# Altium integrated library Linear Technology Operational Amplifiers (LT2000-LT6000).IntLib: 1710 symbols (part 41 of 75)
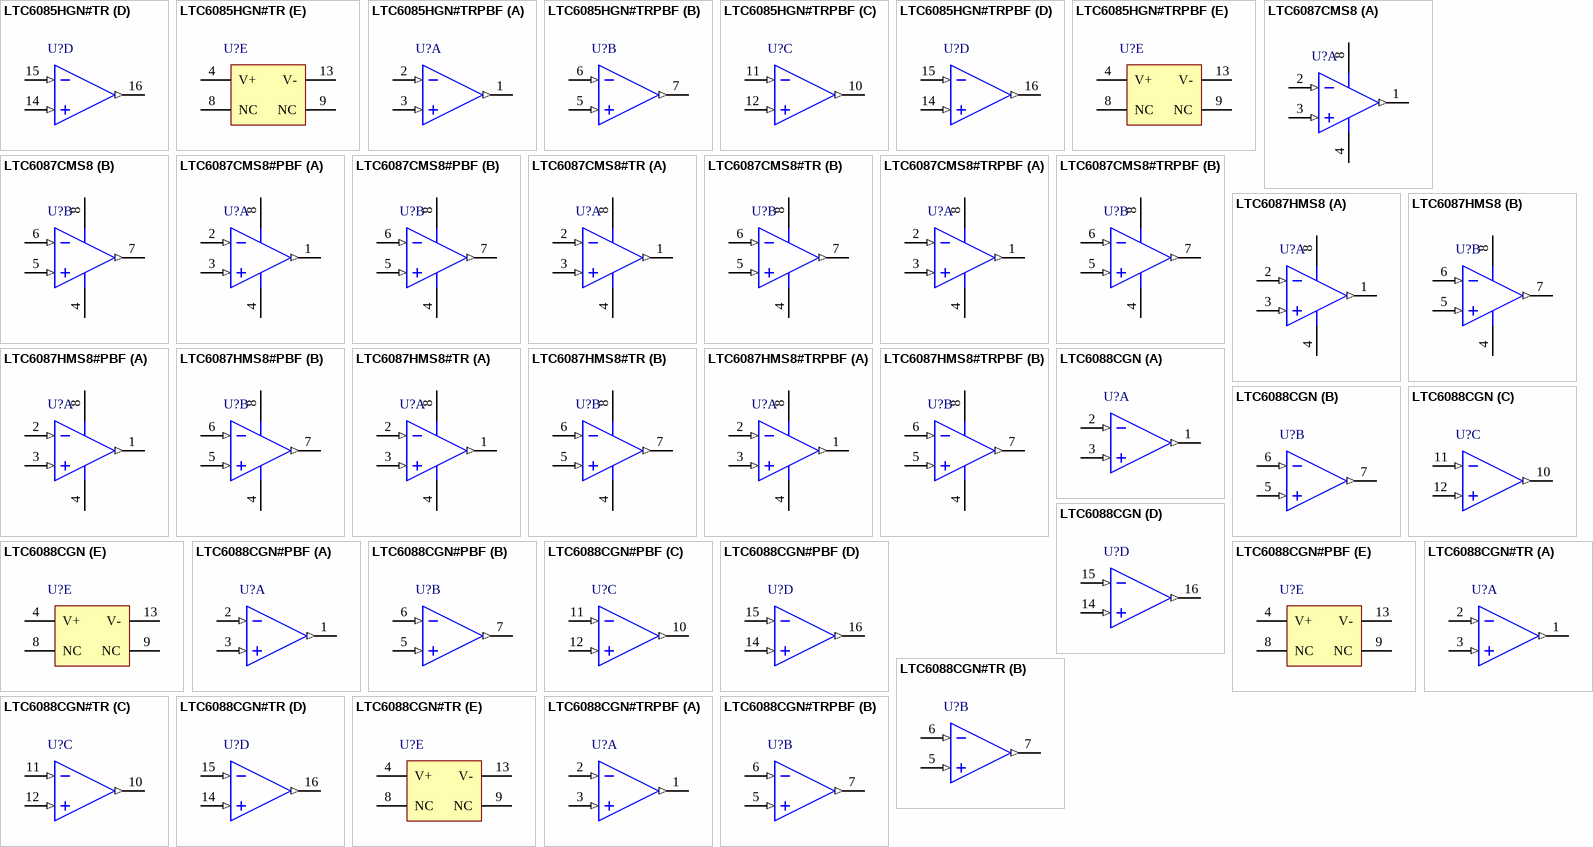
[diagram p120: symbols LTC6085HGN#TR to LTC6088CGN#TRPBF]

## LTC6085HGN#TR
designator U?
Quad Channel, Rail-to-Rail, CMOS Operational Amplifier, 1.5 MHz Typical GBW, 0.5 V/us Typical SR, 2.5 to 5.5 V, 16-Pin SOP (GN-16), High Temperature / Automotive, Reel; Linear Technology Part Number: LTC6085; Manufacturer: Linear Technology; PartNumber: LTC6085HGN#TR; Channels (#): 4; GBW (MHz) Typical: 1.5; Is (mA) Typical: 0.11; SR (V/us) Typical: 0.5; Vos (mV) Typical: 0.3; Vs Max (V): 5.5; Vs Min (V): 2.5; DatasheetVersion: Rev. A; PackageVersion: Rev B; PackageReference: LT-GN-16; PackageDescription: 16-Lead Plastic SSOP, Body 4.9 x 3.9 mm, Pitch 0.635 mm; Packing: Reel; Type: VFB; Mounting Technology: Surface Mount; ComponentLink1Description: Manufacturer URL; ComponentLink1URL: http://www.linear.com/; ComponentLink2Description: Datasheet; ComponentLink2URL: http://cds.linear.com/docs/en/datasheet/60845fa.pdf; ComponentLink3Description: Package Specification; ComponentLink3URL: http://cds.linear.com/docs/en/packaging/05081641_B_GN16.pdf
footprint LT-GN-16_N (SOP, 16-Leads, Body 4.9x3.9mm, Pitch 0.635mm, IPC Medium Density)
footprint LT-GN-16_L (SOP, 16-Leads, Body 4.9x3.9mm, Pitch 0.635mm, IPC High Density)
footprint LT-GN-16_M (SOP, 16-Leads, Body 4.9x3.9mm, Pitch 0.635mm, IPC Low Density)
part A pins: 1 OUT A (out), 2 IN- A (in), 3 IN+ A (in)
part B pins: 5 IN+ B (in), 6 IN- B (in), 7 OUT B (out)
part C pins: 10 OUT C (out), 11 IN- C (in), 12 IN+ C (in)
part D pins: 14 IN+ D (in), 15 IN- D (in), 16 OUT D (out)
part E pins: 4 V+ (power), 8 NC, 9 NC, 13 V- (power)

## LTC6085HGN#TRPBF
designator U?
Quad Channel, Rail-to-Rail, CMOS Operational Amplifier, 1.5 MHz Typical GBW, 0.5 V/us Typical SR, 2.5 to 5.5 V, 16-Pin SOP (GN-16), High Temperature / Automotive, Pb-Free, Reel; Linear Technology Part Number: LTC6085; Manufacturer: Linear Technology; PartNumber: LTC6085HGN#TRPBF; Channels (#): 4; GBW (MHz) Typical: 1.5; Is (mA) Typical: 0.11; SR (V/us) Typical: 0.5; Vos (mV) Typical: 0.3; Vs Max (V): 5.5; Vs Min (V): 2.5; DatasheetVersion: Rev. A; PackageVersion: Rev B; PackageReference: LT-GN-16; PackageDescription: 16-Lead Plastic SSOP, Body 4.9 x 3.9 mm, Pitch 0.635 mm; Supplier 1: Digi-Key; Supplier Part Number 1: LTC6085HGN#TRPBF-ND; Packing: Reel; RoHS: Pb-Free; Type: VFB; Mounting Technology: Surface Mount; ComponentLink1Description: Manufacturer URL; ComponentLink1URL: http://www.linear.com/; ComponentLink2Description: Datasheet; ComponentLink2URL: http://cds.linear.com/docs/en/datasheet/60845fa.pdf; ComponentLink3Description: Package Specification; ComponentLink3URL: http://cds.linear.com/docs/en/packaging/05081641_B_GN16.pdf
footprint LT-GN-16_N (SOP, 16-Leads, Body 4.9x3.9mm, Pitch 0.635mm, IPC Medium Density)
footprint LT-GN-16_L (SOP, 16-Leads, Body 4.9x3.9mm, Pitch 0.635mm, IPC High Density)
footprint LT-GN-16_M (SOP, 16-Leads, Body 4.9x3.9mm, Pitch 0.635mm, IPC Low Density)
part A pins: 1 OUT A (out), 2 IN- A (in), 3 IN+ A (in)
part B pins: 5 IN+ B (in), 6 IN- B (in), 7 OUT B (out)
part C pins: 10 OUT C (out), 11 IN- C (in), 12 IN+ C (in)
part D pins: 14 IN+ D (in), 15 IN- D (in), 16 OUT D (out)
part E pins: 4 V+ (power), 8 NC, 9 NC, 13 V- (power)

## LTC6087CMS8
designator U?
Dual Channel, Rail-to-Rail, CMOS Operational Amplifier, 14 MHz Typical GBW, 7.2 V/us Typical SR, 2.7 to 5.5 V, 8-Pin SOP (MS8-8), Commercial; Linear Technology Part Number: LTC6087; Manufacturer: Linear Technology; PartNumber: LTC6087CMS8; Channels (#): 2; GBW (MHz) Typical: 14; Is (mA) Typical: 1.05; SR (V/us) Typical: 7.2; Vos (mV) Typical: 0.33; Vs Max (V): 5.5; Vs Min (V): 2.7; DatasheetVersion: Rev. C; PackageVersion: Rev G; PackageReference: LT-MS8-8; PackageDescription: 8-Lead Plastic Small Outline, Body 3.9 x 4.9 mm, Pitch 1.27 mm; Type: VFB; Mounting Technology: Surface Mount; ComponentLink1Description: Manufacturer URL; ComponentLink1URL: http://www.linear.com/; ComponentLink2Description: Datasheet; ComponentLink2URL: http://cds.linear.com/docs/en/datasheet/60878fc.pdf; ComponentLink3Description: Package Specification; ComponentLink3URL: http://cds.linear.com/docs/en/packaging/05081610_G_SO8.pdf
footprint LT-MS8-8_N (SOP, 8-Leads, Body 3x3mm, Pitch 0.65mm, IPC Medium Density)
footprint LT-MS8-8_L (SOP, 8-Leads, Body 3x3mm, Pitch 0.65mm, IPC High Density)
footprint LT-MS8-8_M (SOP, 8-Leads, Body 3x3mm, Pitch 0.65mm, IPC Low Density)
pins on every part: 4 V- (power) "Negative Supply.", 8 V+ (power) "Positive Supply."
part A pins: 1 OUTA (out) "Amplifier Output A", 2 -INA (in) "Inverting Input A", 3 +INA (in) "Noninverting Input A"
part B pins: 5 +INB (in) "Noninverting Input B", 6 -INB (in) "Inverting Input B", 7 OUTB (out) "Amplifier Output B"

## LTC6087CMS8#PBF
designator U?
Dual Channel, Rail-to-Rail, CMOS Operational Amplifier, 14 MHz Typical GBW, 7.2 V/us Typical SR, 2.7 to 5.5 V, 8-Pin SOP (MS8-8), Commercial, Pb-Free; Linear Technology Part Number: LTC6087; Manufacturer: Linear Technology; PartNumber: LTC6087CMS8#PBF; Channels (#): 2; GBW (MHz) Typical: 14; Is (mA) Typical: 1.05; SR (V/us) Typical: 7.2; Vos (mV) Typical: 0.33; Vs Max (V): 5.5; Vs Min (V): 2.7; DatasheetVersion: Rev. C; PackageVersion: Rev G; PackageReference: LT-MS8-8; PackageDescription: 8-Lead Plastic Small Outline, Body 3.9 x 4.9 mm, Pitch 1.27 mm; Supplier 1: Digi-Key; Supplier Part Number 1: LTC6087CMS8#PBF-ND; Supplier 2: Farnell; Supplier Part Number 2: 2294744; Supplier 3: Newark; Supplier Part Number 3: 56M9807; RoHS: Pb-Free; Type: VFB; Mounting Technology: Surface Mount; ComponentLink1Description: Manufacturer URL; ComponentLink1URL: http://www.linear.com/; ComponentLink2Description: Datasheet; ComponentLink2URL: http://cds.linear.com/docs/en/datasheet/60878fc.pdf; ComponentLink3Description: Package Specification; ComponentLink3URL: http://cds.linear.com/docs/en/packaging/05081610_G_SO8.pdf
footprint LT-MS8-8_N (SOP, 8-Leads, Body 3x3mm, Pitch 0.65mm, IPC Medium Density)
footprint LT-MS8-8_L (SOP, 8-Leads, Body 3x3mm, Pitch 0.65mm, IPC High Density)
footprint LT-MS8-8_M (SOP, 8-Leads, Body 3x3mm, Pitch 0.65mm, IPC Low Density)
pins on every part: 4 V- (power) "Negative Supply.", 8 V+ (power) "Positive Supply."
part A pins: 1 OUTA (out) "Amplifier Output A", 2 -INA (in) "Inverting Input A", 3 +INA (in) "Noninverting Input A"
part B pins: 5 +INB (in) "Noninverting Input B", 6 -INB (in) "Inverting Input B", 7 OUTB (out) "Amplifier Output B"

## LTC6087CMS8#TR
designator U?
Dual Channel, Rail-to-Rail, CMOS Operational Amplifier, 14 MHz Typical GBW, 7.2 V/us Typical SR, 2.7 to 5.5 V, 8-Pin SOP (MS8-8), Commercial, Reel; Linear Technology Part Number: LTC6087; Manufacturer: Linear Technology; PartNumber: LTC6087CMS8#TR; Channels (#): 2; GBW (MHz) Typical: 14; Is (mA) Typical: 1.05; SR (V/us) Typical: 7.2; Vos (mV) Typical: 0.33; Vs Max (V): 5.5; Vs Min (V): 2.7; DatasheetVersion: Rev. C; PackageVersion: Rev G; PackageReference: LT-MS8-8; PackageDescription: 8-Lead Plastic Small Outline, Body 3.9 x 4.9 mm, Pitch 1.27 mm; Packing: Reel; Type: VFB; Mounting Technology: Surface Mount; ComponentLink1Description: Manufacturer URL; ComponentLink1URL: http://www.linear.com/; ComponentLink2Description: Datasheet; ComponentLink2URL: http://cds.linear.com/docs/en/datasheet/60878fc.pdf; ComponentLink3Description: Package Specification; ComponentLink3URL: http://cds.linear.com/docs/en/packaging/05081610_G_SO8.pdf
footprint LT-MS8-8_N (SOP, 8-Leads, Body 3x3mm, Pitch 0.65mm, IPC Medium Density)
footprint LT-MS8-8_L (SOP, 8-Leads, Body 3x3mm, Pitch 0.65mm, IPC High Density)
footprint LT-MS8-8_M (SOP, 8-Leads, Body 3x3mm, Pitch 0.65mm, IPC Low Density)
pins on every part: 4 V- (power) "Negative Supply.", 8 V+ (power) "Positive Supply."
part A pins: 1 OUTA (out) "Amplifier Output A", 2 -INA (in) "Inverting Input A", 3 +INA (in) "Noninverting Input A"
part B pins: 5 +INB (in) "Noninverting Input B", 6 -INB (in) "Inverting Input B", 7 OUTB (out) "Amplifier Output B"

## LTC6087CMS8#TRPBF
designator U?
Dual Channel, Rail-to-Rail, CMOS Operational Amplifier, 14 MHz Typical GBW, 7.2 V/us Typical SR, 2.7 to 5.5 V, 8-Pin SOP (MS8-8), Commercial, Pb-Free, Reel; Linear Technology Part Number: LTC6087; Manufacturer: Linear Technology; PartNumber: LTC6087CMS8#TRPBF; Channels (#): 2; GBW (MHz) Typical: 14; Is (mA) Typical: 1.05; SR (V/us) Typical: 7.2; Vos (mV) Typical: 0.33; Vs Max (V): 5.5; Vs Min (V): 2.7; DatasheetVersion: Rev. C; PackageVersion: Rev G; PackageReference: LT-MS8-8; PackageDescription: 8-Lead Plastic Small Outline, Body 3.9 x 4.9 mm, Pitch 1.27 mm; Supplier 1: Digi-Key; Supplier Part Number 1: LTC6087CMS8#TRPBF-ND; Packing: Reel; RoHS: Pb-Free; Type: VFB; Mounting Technology: Surface Mount; ComponentLink1Description: Manufacturer URL; ComponentLink1URL: http://www.linear.com/; ComponentLink2Description: Datasheet; ComponentLink2URL: http://cds.linear.com/docs/en/datasheet/60878fc.pdf; ComponentLink3Description: Package Specification; ComponentLink3URL: http://cds.linear.com/docs/en/packaging/05081610_G_SO8.pdf
footprint LT-MS8-8_N (SOP, 8-Leads, Body 3x3mm, Pitch 0.65mm, IPC Medium Density)
footprint LT-MS8-8_L (SOP, 8-Leads, Body 3x3mm, Pitch 0.65mm, IPC High Density)
footprint LT-MS8-8_M (SOP, 8-Leads, Body 3x3mm, Pitch 0.65mm, IPC Low Density)
pins on every part: 4 V- (power) "Negative Supply.", 8 V+ (power) "Positive Supply."
part A pins: 1 OUTA (out) "Amplifier Output A", 2 -INA (in) "Inverting Input A", 3 +INA (in) "Noninverting Input A"
part B pins: 5 +INB (in) "Noninverting Input B", 6 -INB (in) "Inverting Input B", 7 OUTB (out) "Amplifier Output B"

## LTC6087HMS8
designator U?
Dual Channel, Rail-to-Rail, CMOS Operational Amplifier, 14 MHz Typical GBW, 7.2 V/us Typical SR, 2.7 to 5.5 V, 8-Pin SOP (MS8-8), High Temperature / Automotive; Linear Technology Part Number: LTC6087; Manufacturer: Linear Technology; PartNumber: LTC6087HMS8; Channels (#): 2; GBW (MHz) Typical: 14; Is (mA) Typical: 1.05; SR (V/us) Typical: 7.2; Vos (mV) Typical: 0.33; Vs Max (V): 5.5; Vs Min (V): 2.7; DatasheetVersion: Rev. C; PackageVersion: Rev G; PackageReference: LT-MS8-8; PackageDescription: 8-Lead Plastic Small Outline, Body 3.9 x 4.9 mm, Pitch 1.27 mm; Supplier 1: Newark; Supplier Part Number 1: 56M9814; Type: VFB; Mounting Technology: Surface Mount; ComponentLink1Description: Manufacturer URL; ComponentLink1URL: http://www.linear.com/; ComponentLink2Description: Datasheet; ComponentLink2URL: http://cds.linear.com/docs/en/datasheet/60878fc.pdf; ComponentLink3Description: Package Specification; ComponentLink3URL: http://cds.linear.com/docs/en/packaging/05081610_G_SO8.pdf
footprint LT-MS8-8_N (SOP, 8-Leads, Body 3x3mm, Pitch 0.65mm, IPC Medium Density)
footprint LT-MS8-8_L (SOP, 8-Leads, Body 3x3mm, Pitch 0.65mm, IPC High Density)
footprint LT-MS8-8_M (SOP, 8-Leads, Body 3x3mm, Pitch 0.65mm, IPC Low Density)
pins on every part: 4 V- (power) "Negative Supply.", 8 V+ (power) "Positive Supply."
part A pins: 1 OUTA (out) "Amplifier Output A", 2 -INA (in) "Inverting Input A", 3 +INA (in) "Noninverting Input A"
part B pins: 5 +INB (in) "Noninverting Input B", 6 -INB (in) "Inverting Input B", 7 OUTB (out) "Amplifier Output B"

## LTC6087HMS8#PBF
designator U?
Dual Channel, Rail-to-Rail, CMOS Operational Amplifier, 14 MHz Typical GBW, 7.2 V/us Typical SR, 2.7 to 5.5 V, 8-Pin SOP (MS8-8), High Temperature / Automotive, Pb-Free; Linear Technology Part Number: LTC6087; Manufacturer: Linear Technology; PartNumber: LTC6087HMS8#PBF; Channels (#): 2; GBW (MHz) Typical: 14; Is (mA) Typical: 1.05; SR (V/us) Typical: 7.2; Vos (mV) Typical: 0.33; Vs Max (V): 5.5; Vs Min (V): 2.7; DatasheetVersion: Rev. C; PackageVersion: Rev G; PackageReference: LT-MS8-8; PackageDescription: 8-Lead Plastic Small Outline, Body 3.9 x 4.9 mm, Pitch 1.27 mm; Supplier 1: Digi-Key; Supplier Part Number 1: LTC6087HMS8#PBF-ND; Supplier 2: Farnell; Supplier Part Number 2: 2294745; Supplier 3: Newark; Supplier Part Number 3: 56M9815; RoHS: Pb-Free; Type: VFB; Mounting Technology: Surface Mount; ComponentLink1Description: Manufacturer URL; ComponentLink1URL: http://www.linear.com/; ComponentLink2Description: Datasheet; ComponentLink2URL: http://cds.linear.com/docs/en/datasheet/60878fc.pdf; ComponentLink3Description: Package Specification; ComponentLink3URL: http://cds.linear.com/docs/en/packaging/05081610_G_SO8.pdf
footprint LT-MS8-8_N (SOP, 8-Leads, Body 3x3mm, Pitch 0.65mm, IPC Medium Density)
footprint LT-MS8-8_L (SOP, 8-Leads, Body 3x3mm, Pitch 0.65mm, IPC High Density)
footprint LT-MS8-8_M (SOP, 8-Leads, Body 3x3mm, Pitch 0.65mm, IPC Low Density)
pins on every part: 4 V- (power) "Negative Supply.", 8 V+ (power) "Positive Supply."
part A pins: 1 OUTA (out) "Amplifier Output A", 2 -INA (in) "Inverting Input A", 3 +INA (in) "Noninverting Input A"
part B pins: 5 +INB (in) "Noninverting Input B", 6 -INB (in) "Inverting Input B", 7 OUTB (out) "Amplifier Output B"

## LTC6087HMS8#TR
designator U?
Dual Channel, Rail-to-Rail, CMOS Operational Amplifier, 14 MHz Typical GBW, 7.2 V/us Typical SR, 2.7 to 5.5 V, 8-Pin SOP (MS8-8), High Temperature / Automotive, Reel; Linear Technology Part Number: LTC6087; Manufacturer: Linear Technology; PartNumber: LTC6087HMS8#TR; Channels (#): 2; GBW (MHz) Typical: 14; Is (mA) Typical: 1.05; SR (V/us) Typical: 7.2; Vos (mV) Typical: 0.33; Vs Max (V): 5.5; Vs Min (V): 2.7; DatasheetVersion: Rev. C; PackageVersion: Rev G; PackageReference: LT-MS8-8; PackageDescription: 8-Lead Plastic Small Outline, Body 3.9 x 4.9 mm, Pitch 1.27 mm; Packing: Reel; Type: VFB; Mounting Technology: Surface Mount; ComponentLink1Description: Manufacturer URL; ComponentLink1URL: http://www.linear.com/; ComponentLink2Description: Datasheet; ComponentLink2URL: http://cds.linear.com/docs/en/datasheet/60878fc.pdf; ComponentLink3Description: Package Specification; ComponentLink3URL: http://cds.linear.com/docs/en/packaging/05081610_G_SO8.pdf
footprint LT-MS8-8_N (SOP, 8-Leads, Body 3x3mm, Pitch 0.65mm, IPC Medium Density)
footprint LT-MS8-8_L (SOP, 8-Leads, Body 3x3mm, Pitch 0.65mm, IPC High Density)
footprint LT-MS8-8_M (SOP, 8-Leads, Body 3x3mm, Pitch 0.65mm, IPC Low Density)
pins on every part: 4 V- (power) "Negative Supply.", 8 V+ (power) "Positive Supply."
part A pins: 1 OUTA (out) "Amplifier Output A", 2 -INA (in) "Inverting Input A", 3 +INA (in) "Noninverting Input A"
part B pins: 5 +INB (in) "Noninverting Input B", 6 -INB (in) "Inverting Input B", 7 OUTB (out) "Amplifier Output B"

## LTC6087HMS8#TRPBF
designator U?
Dual Channel, Rail-to-Rail, CMOS Operational Amplifier, 14 MHz Typical GBW, 7.2 V/us Typical SR, 2.7 to 5.5 V, 8-Pin SOP (MS8-8), High Temperature / Automotive, Pb-Free, Reel; Linear Technology Part Number: LTC6087; Manufacturer: Linear Technology; PartNumber: LTC6087HMS8#TRPBF; Channels (#): 2; GBW (MHz) Typical: 14; Is (mA) Typical: 1.05; SR (V/us) Typical: 7.2; Vos (mV) Typical: 0.33; Vs Max (V): 5.5; Vs Min (V): 2.7; DatasheetVersion: Rev. C; PackageVersion: Rev G; PackageReference: LT-MS8-8; PackageDescription: 8-Lead Plastic Small Outline, Body 3.9 x 4.9 mm, Pitch 1.27 mm; Supplier 1: Digi-Key; Supplier Part Number 1: LTC6087HMS8#TRPBF-ND; Packing: Reel; RoHS: Pb-Free; Type: VFB; Mounting Technology: Surface Mount; ComponentLink1Description: Manufacturer URL; ComponentLink1URL: http://www.linear.com/; ComponentLink2Description: Datasheet; ComponentLink2URL: http://cds.linear.com/docs/en/datasheet/60878fc.pdf; ComponentLink3Description: Package Specification; ComponentLink3URL: http://cds.linear.com/docs/en/packaging/05081610_G_SO8.pdf
footprint LT-MS8-8_N (SOP, 8-Leads, Body 3x3mm, Pitch 0.65mm, IPC Medium Density)
footprint LT-MS8-8_L (SOP, 8-Leads, Body 3x3mm, Pitch 0.65mm, IPC High Density)
footprint LT-MS8-8_M (SOP, 8-Leads, Body 3x3mm, Pitch 0.65mm, IPC Low Density)
pins on every part: 4 V- (power) "Negative Supply.", 8 V+ (power) "Positive Supply."
part A pins: 1 OUTA (out) "Amplifier Output A", 2 -INA (in) "Inverting Input A", 3 +INA (in) "Noninverting Input A"
part B pins: 5 +INB (in) "Noninverting Input B", 6 -INB (in) "Inverting Input B", 7 OUTB (out) "Amplifier Output B"

## LTC6088CGN
designator U?
Quad Channel, Rail-to-Rail, CMOS Operational Amplifier, 14 MHz Typical GBW, 7.2 V/us Typical SR, 2.7 to 5.5 V, 16-Pin SOP (GN-16), Commercial; Linear Technology Part Number: LTC6088; Manufacturer: Linear Technology; PartNumber: LTC6088CGN; Channels (#): 4; GBW (MHz) Typical: 14; Is (mA) Typical: 1.05; SR (V/us) Typical: 7.2; Vos (mV) Typical: 0.33; Vs Max (V): 5.5; Vs Min (V): 2.7; DatasheetVersion: Rev. C; PackageVersion: Rev B; PackageReference: LT-GN-16; PackageDescription: 16-Lead Plastic SSOP, Body 4.9 x 3.9 mm, Pitch 0.635 mm; Type: VFB; Mounting Technology: Surface Mount; ComponentLink1Description: Manufacturer URL; ComponentLink1URL: http://www.linear.com/; ComponentLink2Description: Datasheet; ComponentLink2URL: http://cds.linear.com/docs/en/datasheet/60878fc.pdf; ComponentLink3Description: Package Specification; ComponentLink3URL: http://cds.linear.com/docs/en/packaging/05081641_B_GN16.pdf
footprint LT-GN-16_N (SOP, 16-Leads, Body 4.9x3.9mm, Pitch 0.635mm, IPC Medium Density)
footprint LT-GN-16_L (SOP, 16-Leads, Body 4.9x3.9mm, Pitch 0.635mm, IPC High Density)
footprint LT-GN-16_M (SOP, 16-Leads, Body 4.9x3.9mm, Pitch 0.635mm, IPC Low Density)
part A pins: 1 OUT A (out), 2 IN- A (in), 3 IN+ A (in)
part B pins: 5 IN+ B (in), 6 IN- B (in), 7 OUT B (out)
part C pins: 10 OUT C (out), 11 IN- C (in), 12 IN+ C (in)
part D pins: 14 IN+ D (in), 15 IN- D (in), 16 OUT D (out)
part E pins: 4 V+ (power), 8 NC, 9 NC, 13 V- (power)

## LTC6088CGN#PBF
designator U?
Quad Channel, Rail-to-Rail, CMOS Operational Amplifier, 14 MHz Typical GBW, 7.2 V/us Typical SR, 2.7 to 5.5 V, 16-Pin SOP (GN-16), Commercial, Pb-Free; Linear Technology Part Number: LTC6088; Manufacturer: Linear Technology; PartNumber: LTC6088CGN#PBF; Channels (#): 4; GBW (MHz) Typical: 14; Is (mA) Typical: 1.05; SR (V/us) Typical: 7.2; Vos (mV) Typical: 0.33; Vs Max (V): 5.5; Vs Min (V): 2.7; DatasheetVersion: Rev. C; PackageVersion: Rev B; PackageReference: LT-GN-16; PackageDescription: 16-Lead Plastic SSOP, Body 4.9 x 3.9 mm, Pitch 0.635 mm; Supplier 1: Digi-Key; Supplier Part Number 1: LTC6088CGN#PBF-ND; Supplier 2: Newark; Supplier Part Number 2: 56M9823; RoHS: Pb-Free; Type: VFB; Mounting Technology: Surface Mount; ComponentLink1Description: Manufacturer URL; ComponentLink1URL: http://www.linear.com/; ComponentLink2Description: Datasheet; ComponentLink2URL: http://cds.linear.com/docs/en/datasheet/60878fc.pdf; ComponentLink3Description: Package Specification; ComponentLink3URL: http://cds.linear.com/docs/en/packaging/05081641_B_GN16.pdf
footprint LT-GN-16_N (SOP, 16-Leads, Body 4.9x3.9mm, Pitch 0.635mm, IPC Medium Density)
footprint LT-GN-16_L (SOP, 16-Leads, Body 4.9x3.9mm, Pitch 0.635mm, IPC High Density)
footprint LT-GN-16_M (SOP, 16-Leads, Body 4.9x3.9mm, Pitch 0.635mm, IPC Low Density)
part A pins: 1 OUT A (out), 2 IN- A (in), 3 IN+ A (in)
part B pins: 5 IN+ B (in), 6 IN- B (in), 7 OUT B (out)
part C pins: 10 OUT C (out), 11 IN- C (in), 12 IN+ C (in)
part D pins: 14 IN+ D (in), 15 IN- D (in), 16 OUT D (out)
part E pins: 4 V+ (power), 8 NC, 9 NC, 13 V- (power)

## LTC6088CGN#TR
designator U?
Quad Channel, Rail-to-Rail, CMOS Operational Amplifier, 14 MHz Typical GBW, 7.2 V/us Typical SR, 2.7 to 5.5 V, 16-Pin SOP (GN-16), Commercial, Reel; Linear Technology Part Number: LTC6088; Manufacturer: Linear Technology; PartNumber: LTC6088CGN#TR; Channels (#): 4; GBW (MHz) Typical: 14; Is (mA) Typical: 1.05; SR (V/us) Typical: 7.2; Vos (mV) Typical: 0.33; Vs Max (V): 5.5; Vs Min (V): 2.7; DatasheetVersion: Rev. C; PackageVersion: Rev B; PackageReference: LT-GN-16; PackageDescription: 16-Lead Plastic SSOP, Body 4.9 x 3.9 mm, Pitch 0.635 mm; Packing: Reel; Type: VFB; Mounting Technology: Surface Mount; ComponentLink1Description: Manufacturer URL; ComponentLink1URL: http://www.linear.com/; ComponentLink2Description: Datasheet; ComponentLink2URL: http://cds.linear.com/docs/en/datasheet/60878fc.pdf; ComponentLink3Description: Package Specification; ComponentLink3URL: http://cds.linear.com/docs/en/packaging/05081641_B_GN16.pdf
footprint LT-GN-16_N (SOP, 16-Leads, Body 4.9x3.9mm, Pitch 0.635mm, IPC Medium Density)
footprint LT-GN-16_L (SOP, 16-Leads, Body 4.9x3.9mm, Pitch 0.635mm, IPC High Density)
footprint LT-GN-16_M (SOP, 16-Leads, Body 4.9x3.9mm, Pitch 0.635mm, IPC Low Density)
part A pins: 1 OUT A (out), 2 IN- A (in), 3 IN+ A (in)
part B pins: 5 IN+ B (in), 6 IN- B (in), 7 OUT B (out)
part C pins: 10 OUT C (out), 11 IN- C (in), 12 IN+ C (in)
part D pins: 14 IN+ D (in), 15 IN- D (in), 16 OUT D (out)
part E pins: 4 V+ (power), 8 NC, 9 NC, 13 V- (power)

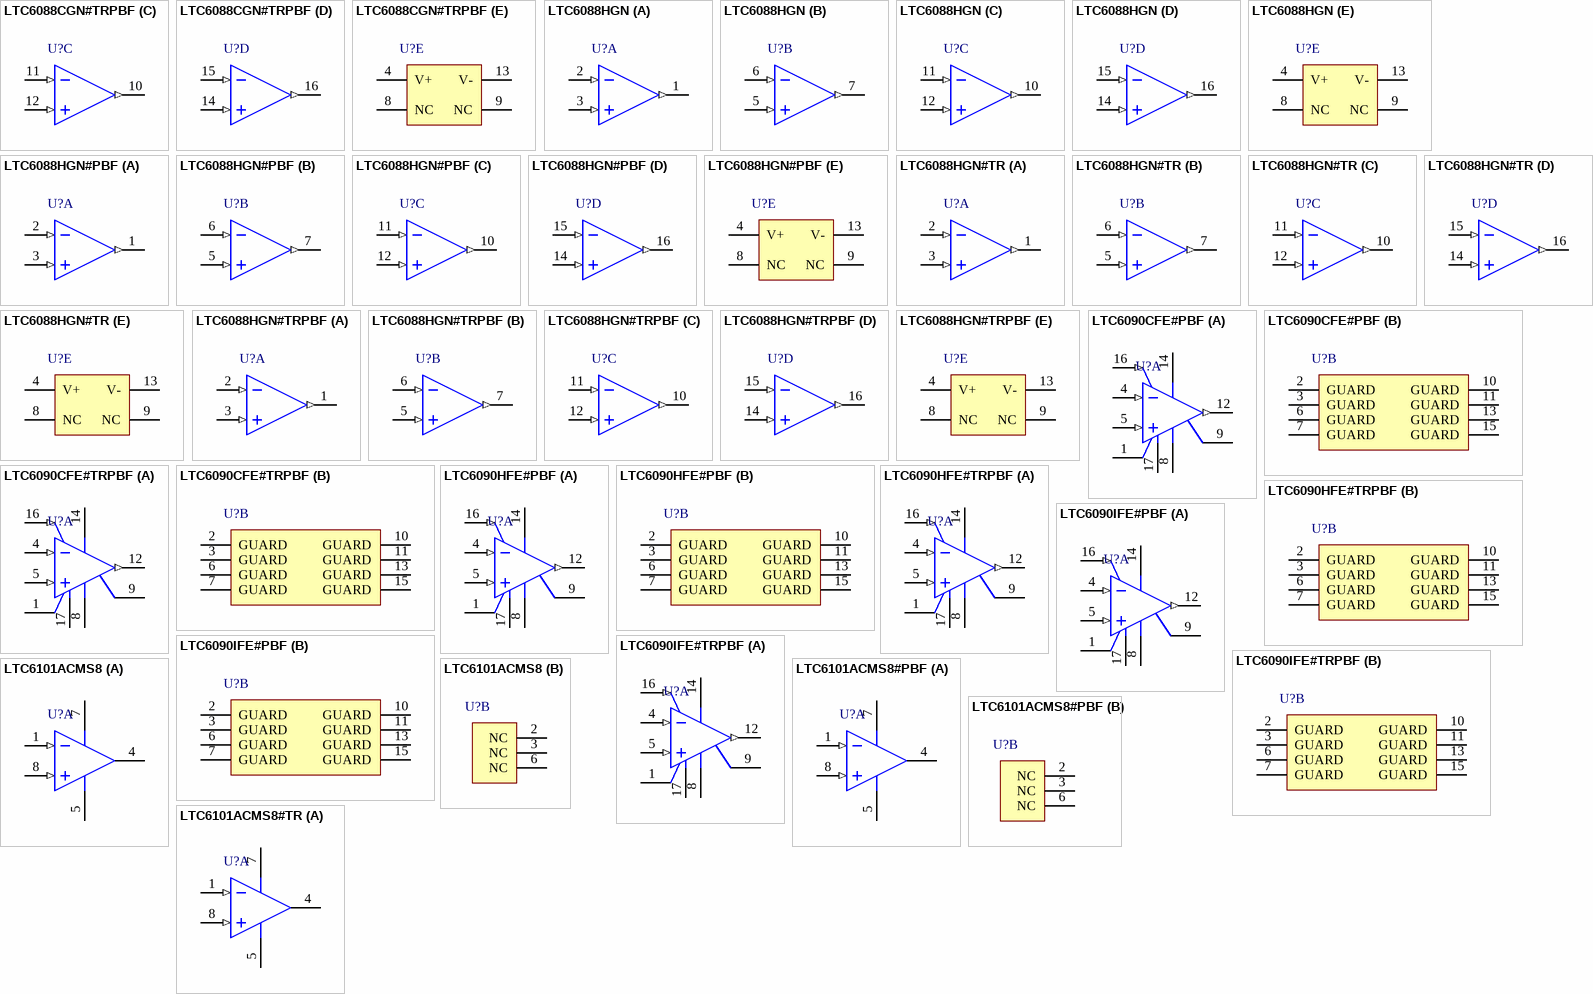
[diagram p56: symbols LTC6088CGN#TRPBF to LTC6101ACMS8#TR]

## LTC6088CGN#TRPBF
designator U?
Quad Channel, Rail-to-Rail, CMOS Operational Amplifier, 14 MHz Typical GBW, 7.2 V/us Typical SR, 2.7 to 5.5 V, 16-Pin SOP (GN-16), Commercial, Pb-Free, Reel; Linear Technology Part Number: LTC6088; Manufacturer: Linear Technology; PartNumber: LTC6088CGN#TRPBF; Channels (#): 4; GBW (MHz) Typical: 14; Is (mA) Typical: 1.05; SR (V/us) Typical: 7.2; Vos (mV) Typical: 0.33; Vs Max (V): 5.5; Vs Min (V): 2.7; DatasheetVersion: Rev. C; PackageVersion: Rev B; PackageReference: LT-GN-16; PackageDescription: 16-Lead Plastic SSOP, Body 4.9 x 3.9 mm, Pitch 0.635 mm; Supplier 1: Digi-Key; Supplier Part Number 1: LTC6088CGN#TRPBF-ND; Supplier 2: Newark; Supplier Part Number 2: 56M9825; Packing: Reel; RoHS: Pb-Free; Type: VFB; Mounting Technology: Surface Mount; ComponentLink1Description: Manufacturer URL; ComponentLink1URL: http://www.linear.com/; ComponentLink2Description: Datasheet; ComponentLink2URL: http://cds.linear.com/docs/en/datasheet/60878fc.pdf; ComponentLink3Description: Package Specification; ComponentLink3URL: http://cds.linear.com/docs/en/packaging/05081641_B_GN16.pdf
footprint LT-GN-16_N (SOP, 16-Leads, Body 4.9x3.9mm, Pitch 0.635mm, IPC Medium Density)
footprint LT-GN-16_L (SOP, 16-Leads, Body 4.9x3.9mm, Pitch 0.635mm, IPC High Density)
footprint LT-GN-16_M (SOP, 16-Leads, Body 4.9x3.9mm, Pitch 0.635mm, IPC Low Density)
part A pins: 1 OUT A (out), 2 IN- A (in), 3 IN+ A (in)
part B pins: 5 IN+ B (in), 6 IN- B (in), 7 OUT B (out)
part C pins: 10 OUT C (out), 11 IN- C (in), 12 IN+ C (in)
part D pins: 14 IN+ D (in), 15 IN- D (in), 16 OUT D (out)
part E pins: 4 V+ (power), 8 NC, 9 NC, 13 V- (power)

## LTC6088HGN
designator U?
Quad Channel, Rail-to-Rail, CMOS Operational Amplifier, 14 MHz Typical GBW, 7.2 V/us Typical SR, 2.7 to 5.5 V, 16-Pin SOP (GN-16), High Temperature / Automotive; Linear Technology Part Number: LTC6088; Manufacturer: Linear Technology; PartNumber: LTC6088HGN; Channels (#): 4; GBW (MHz) Typical: 14; Is (mA) Typical: 1.05; SR (V/us) Typical: 7.2; Vos (mV) Typical: 0.33; Vs Max (V): 5.5; Vs Min (V): 2.7; DatasheetVersion: Rev. C; PackageVersion: Rev B; PackageReference: LT-GN-16; PackageDescription: 16-Lead Plastic SSOP, Body 4.9 x 3.9 mm, Pitch 0.635 mm; Type: VFB; Mounting Technology: Surface Mount; ComponentLink1Description: Manufacturer URL; ComponentLink1URL: http://www.linear.com/; ComponentLink2Description: Datasheet; ComponentLink2URL: http://cds.linear.com/docs/en/datasheet/60878fc.pdf; ComponentLink3Description: Package Specification; ComponentLink3URL: http://cds.linear.com/docs/en/packaging/05081641_B_GN16.pdf
footprint LT-GN-16_N (SOP, 16-Leads, Body 4.9x3.9mm, Pitch 0.635mm, IPC Medium Density)
footprint LT-GN-16_L (SOP, 16-Leads, Body 4.9x3.9mm, Pitch 0.635mm, IPC High Density)
footprint LT-GN-16_M (SOP, 16-Leads, Body 4.9x3.9mm, Pitch 0.635mm, IPC Low Density)
part A pins: 1 OUT A (out), 2 IN- A (in), 3 IN+ A (in)
part B pins: 5 IN+ B (in), 6 IN- B (in), 7 OUT B (out)
part C pins: 10 OUT C (out), 11 IN- C (in), 12 IN+ C (in)
part D pins: 14 IN+ D (in), 15 IN- D (in), 16 OUT D (out)
part E pins: 4 V+ (power), 8 NC, 9 NC, 13 V- (power)

## LTC6088HGN#PBF
designator U?
Quad Channel, Rail-to-Rail, CMOS Operational Amplifier, 14 MHz Typical GBW, 7.2 V/us Typical SR, 2.7 to 5.5 V, 16-Pin SOP (GN-16), High Temperature / Automotive, Pb-Free; Linear Technology Part Number: LTC6088; Manufacturer: Linear Technology; PartNumber: LTC6088HGN#PBF; Channels (#): 4; GBW (MHz) Typical: 14; Is (mA) Typical: 1.05; SR (V/us) Typical: 7.2; Vos (mV) Typical: 0.33; Vs Max (V): 5.5; Vs Min (V): 2.7; DatasheetVersion: Rev. C; PackageVersion: Rev B; PackageReference: LT-GN-16; PackageDescription: 16-Lead Plastic SSOP, Body 4.9 x 3.9 mm, Pitch 0.635 mm; Supplier 1: Digi-Key; Supplier Part Number 1: LTC6088HGN#PBF-ND; RoHS: Pb-Free; Type: VFB; Mounting Technology: Surface Mount; ComponentLink1Description: Manufacturer URL; ComponentLink1URL: http://www.linear.com/; ComponentLink2Description: Datasheet; ComponentLink2URL: http://cds.linear.com/docs/en/datasheet/60878fc.pdf; ComponentLink3Description: Package Specification; ComponentLink3URL: http://cds.linear.com/docs/en/packaging/05081641_B_GN16.pdf
footprint LT-GN-16_N (SOP, 16-Leads, Body 4.9x3.9mm, Pitch 0.635mm, IPC Medium Density)
footprint LT-GN-16_L (SOP, 16-Leads, Body 4.9x3.9mm, Pitch 0.635mm, IPC High Density)
footprint LT-GN-16_M (SOP, 16-Leads, Body 4.9x3.9mm, Pitch 0.635mm, IPC Low Density)
part A pins: 1 OUT A (out), 2 IN- A (in), 3 IN+ A (in)
part B pins: 5 IN+ B (in), 6 IN- B (in), 7 OUT B (out)
part C pins: 10 OUT C (out), 11 IN- C (in), 12 IN+ C (in)
part D pins: 14 IN+ D (in), 15 IN- D (in), 16 OUT D (out)
part E pins: 4 V+ (power), 8 NC, 9 NC, 13 V- (power)

## LTC6088HGN#TR
designator U?
Quad Channel, Rail-to-Rail, CMOS Operational Amplifier, 14 MHz Typical GBW, 7.2 V/us Typical SR, 2.7 to 5.5 V, 16-Pin SOP (GN-16), High Temperature / Automotive, Reel; Linear Technology Part Number: LTC6088; Manufacturer: Linear Technology; PartNumber: LTC6088HGN#TR; Channels (#): 4; GBW (MHz) Typical: 14; Is (mA) Typical: 1.05; SR (V/us) Typical: 7.2; Vos (mV) Typical: 0.33; Vs Max (V): 5.5; Vs Min (V): 2.7; DatasheetVersion: Rev. C; PackageVersion: Rev B; PackageReference: LT-GN-16; PackageDescription: 16-Lead Plastic SSOP, Body 4.9 x 3.9 mm, Pitch 0.635 mm; Packing: Reel; Type: VFB; Mounting Technology: Surface Mount; ComponentLink1Description: Manufacturer URL; ComponentLink1URL: http://www.linear.com/; ComponentLink2Description: Datasheet; ComponentLink2URL: http://cds.linear.com/docs/en/datasheet/60878fc.pdf; ComponentLink3Description: Package Specification; ComponentLink3URL: http://cds.linear.com/docs/en/packaging/05081641_B_GN16.pdf
footprint LT-GN-16_N (SOP, 16-Leads, Body 4.9x3.9mm, Pitch 0.635mm, IPC Medium Density)
footprint LT-GN-16_L (SOP, 16-Leads, Body 4.9x3.9mm, Pitch 0.635mm, IPC High Density)
footprint LT-GN-16_M (SOP, 16-Leads, Body 4.9x3.9mm, Pitch 0.635mm, IPC Low Density)
part A pins: 1 OUT A (out), 2 IN- A (in), 3 IN+ A (in)
part B pins: 5 IN+ B (in), 6 IN- B (in), 7 OUT B (out)
part C pins: 10 OUT C (out), 11 IN- C (in), 12 IN+ C (in)
part D pins: 14 IN+ D (in), 15 IN- D (in), 16 OUT D (out)
part E pins: 4 V+ (power), 8 NC, 9 NC, 13 V- (power)

## LTC6088HGN#TRPBF
designator U?
Quad Channel, Rail-to-Rail, CMOS Operational Amplifier, 14 MHz Typical GBW, 7.2 V/us Typical SR, 2.7 to 5.5 V, 16-Pin SOP (GN-16), High Temperature / Automotive, Pb-Free, Reel; Linear Technology Part Number: LTC6088; Manufacturer: Linear Technology; PartNumber: LTC6088HGN#TRPBF; Channels (#): 4; GBW (MHz) Typical: 14; Is (mA) Typical: 1.05; SR (V/us) Typical: 7.2; Vos (mV) Typical: 0.33; Vs Max (V): 5.5; Vs Min (V): 2.7; DatasheetVersion: Rev. C; PackageVersion: Rev B; PackageReference: LT-GN-16; PackageDescription: 16-Lead Plastic SSOP, Body 4.9 x 3.9 mm, Pitch 0.635 mm; Supplier 1: Digi-Key; Supplier Part Number 1: LTC6088HGN#TRPBF-ND; Packing: Reel; RoHS: Pb-Free; Type: VFB; Mounting Technology: Surface Mount; ComponentLink1Description: Manufacturer URL; ComponentLink1URL: http://www.linear.com/; ComponentLink2Description: Datasheet; ComponentLink2URL: http://cds.linear.com/docs/en/datasheet/60878fc.pdf; ComponentLink3Description: Package Specification; ComponentLink3URL: http://cds.linear.com/docs/en/packaging/05081641_B_GN16.pdf
footprint LT-GN-16_N (SOP, 16-Leads, Body 4.9x3.9mm, Pitch 0.635mm, IPC Medium Density)
footprint LT-GN-16_L (SOP, 16-Leads, Body 4.9x3.9mm, Pitch 0.635mm, IPC High Density)
footprint LT-GN-16_M (SOP, 16-Leads, Body 4.9x3.9mm, Pitch 0.635mm, IPC Low Density)
part A pins: 1 OUT A (out), 2 IN- A (in), 3 IN+ A (in)
part B pins: 5 IN+ B (in), 6 IN- B (in), 7 OUT B (out)
part C pins: 10 OUT C (out), 11 IN- C (in), 12 IN+ C (in)
part D pins: 14 IN+ D (in), 15 IN- D (in), 16 OUT D (out)
part E pins: 4 V+ (power), 8 NC, 9 NC, 13 V- (power)

## LTC6090CFE#PBF
designator U?
Single Channel, Picoamp Input Current, CMOS Operational Amplifier, RRO, 10 MHz Typical GBW, 19 V/us Typical SR, 9.5 to 140 V, 16-Pin SOP (FE-16), Commercial, Pb-Free; Linear Technology Part Number: LTC6090; Manufacturer: Linear Technology; PartNumber: LTC6090CFE#PBF; PackageVersion: Rev I; PackageReference: LT-FE-16-EPV-BA; PackageDescription: 16-Lead Plastic TSSOP, Body 5.00 x 4.40 mm, Pitch 0.65 mm; Supplier 1: Digi-Key; Supplier Part Number 1: LTC6090CFE#PBF-ND; Supplier 2: Farnell; Supplier Part Number 2: 2334037; Supplier 3: Newark; Supplier Part Number 3: 48W6429; RoHS: Pb-Free; Mounting Technology: Surface Mount; ComponentLink1Description: Manufacturer URL; ComponentLink1URL: http://www.linear.com/; ComponentLink2Description: Datasheet; ComponentLink2URL: http://cds.linear.com/docs/en/datasheet/6090f.pdf; ComponentLink3Description: Package Specification; ComponentLink3URL: http://cds.linear.com/docs/en/packaging/05081663_I_FE16%28BA%29.pdf
footprint LT-FE-16-EPV-BA_N (SOP, 16-Leads, Body 5x4.4mm, Pitch 0.65mm, Thermal Pad 2.74x2.74mm, IPC Medium Density)
footprint LT-FE-16-EPV-BA_L (SOP, 16-Leads, Body 5x4.4mm, Pitch 0.65mm, Thermal Pad 2.74x2.74mm, IPC High Density)
footprint LT-FE-16-EPV-BA_M (SOP, 16-Leads, Body 5x4.4mm, Pitch 0.65mm, Thermal Pad 2.74x2.74mm, IPC Low Density)
part A pins: 1 COM "COM Pin is used to interface O\D\ and T\F\L\A\G\ pins to voltage control circuits. Tie this pin to the low voltage ground, or let it float.", 4 -IN (in) "Inverting Input Pin. Input common mode range is V- + 3V to V+ - 3V. Do not exceed absolute maximum voltage range.", 5 +IN (in) "Noninverting Input Pin. Input common mode range is V- + 3V to V+ - 3V. Do not exceed absolute maximum voltage range.", 8 V- (power) "Negative Supply Pin. Connect to V- Only. To achieve low thermal resistance connect this pin to the V- power plane. The V- power plane connection removes heat from the device and should be electrically isolated from all other (See Datasheet)", 9 ~{TFLAG} (oc) "Temperature Flag Pin. The T\F\L\A\G\ pin is an open drain output that sinks current when the die temperature exceeds 145 degreesC.", 12 OUT (out) "Output Pin. If this rail-to-rail output goes below V- , the ESD protection diode will forward bias. If OUT goes above V+, then output device diodes will forward bias. Avoid forward biasing the diodes on the OUT pin. (See Datasheet)", 14 V+ (power) "Positive Supply Pin.", 16 ~{OD} (in) "Output Disable Pin. Active low input disables the output stage. If left open, an internal pull-up resistor enables the amplifier. Input voltage levels are referred to the COM pin.", 17 EP (power) "Exposed Pad ground."
part B pins: 2 GUARD "Guard pins increase clearance and creepage between other pins. Pins 3 and 6 can be used to build guard rings around the inputs", 3 GUARD "Guard pins increase clearance and creepage between other pins. Pins 3 and 6 can be used to build guard rings around the inputs", 6 GUARD "Guard pins increase clearance and creepage between other pins. Pins 3 and 6 can be used to build guard rings around the inputs", 7 GUARD "Guard pins increase clearance and creepage between other pins. Pins 3 and 6 can be used to build guard rings around the inputs", 10 GUARD "Guard pins increase clearance and creepage between other pins. Pins 3 and 6 can be used to build guard rings around the inputs", 11 GUARD "Guard pins increase clearance and creepage between other pins. Pins 3 and 6 can be used to build guard rings around the inputs", 13 GUARD "Guard pins increase clearance and creepage between other pins. Pins 3 and 6 can be used to build guard rings around the inputs", 15 GUARD "Guard pins increase clearance and creepage between other pins. Pins 3 and 6 can be used to build guard rings around the inputs"

## LTC6090CFE#TRPBF
designator U?
Single Channel, Picoamp Input Current, CMOS Operational Amplifier, RRO, 10 MHz Typical GBW, 19 V/us Typical SR, 9.5 to 140 V, 16-Pin SOP (FE-16), Commercial, Pb-Free, Reel; Linear Technology Part Number: LTC6090; Manufacturer: Linear Technology; PartNumber: LTC6090CFE#TRPBF; PackageVersion: Rev I; PackageReference: LT-FE-16-EPV-BA; PackageDescription: 16-Lead Plastic TSSOP, Body 5.00 x 4.40 mm, Pitch 0.65 mm; Supplier 1: Digi-Key; Supplier Part Number 1: LTC6090CFE#TRPBF-ND; Supplier 2: Newark; Supplier Part Number 2: 48W6430; Packing: Reel; RoHS: Pb-Free; Mounting Technology: Surface Mount; ComponentLink1Description: Manufacturer URL; ComponentLink1URL: http://www.linear.com/; ComponentLink2Description: Datasheet; ComponentLink2URL: http://cds.linear.com/docs/en/datasheet/6090f.pdf; ComponentLink3Description: Package Specification; ComponentLink3URL: http://cds.linear.com/docs/en/packaging/05081663_I_FE16%28BA%29.pdf
footprint LT-FE-16-EPV-BA_N (SOP, 16-Leads, Body 5x4.4mm, Pitch 0.65mm, Thermal Pad 2.74x2.74mm, IPC Medium Density)
footprint LT-FE-16-EPV-BA_L (SOP, 16-Leads, Body 5x4.4mm, Pitch 0.65mm, Thermal Pad 2.74x2.74mm, IPC High Density)
footprint LT-FE-16-EPV-BA_M (SOP, 16-Leads, Body 5x4.4mm, Pitch 0.65mm, Thermal Pad 2.74x2.74mm, IPC Low Density)
part A pins: 1 COM "COM Pin is used to interface O\D\ and T\F\L\A\G\ pins to voltage control circuits. Tie this pin to the low voltage ground, or let it float.", 4 -IN (in) "Inverting Input Pin. Input common mode range is V- + 3V to V+ - 3V. Do not exceed absolute maximum voltage range.", 5 +IN (in) "Noninverting Input Pin. Input common mode range is V- + 3V to V+ - 3V. Do not exceed absolute maximum voltage range.", 8 V- (power) "Negative Supply Pin. Connect to V- Only. To achieve low thermal resistance connect this pin to the V- power plane. The V- power plane connection removes heat from the device and should be electrically isolated from all other (See Datasheet)", 9 ~{TFLAG} (oc) "Temperature Flag Pin. The T\F\L\A\G\ pin is an open drain output that sinks current when the die temperature exceeds 145 degreesC.", 12 OUT (out) "Output Pin. If this rail-to-rail output goes below V- , the ESD protection diode will forward bias. If OUT goes above V+, then output device diodes will forward bias. Avoid forward biasing the diodes on the OUT pin. (See Datasheet)", 14 V+ (power) "Positive Supply Pin.", 16 ~{OD} (in) "Output Disable Pin. Active low input disables the output stage. If left open, an internal pull-up resistor enables the amplifier. Input voltage levels are referred to the COM pin.", 17 EP (power) "Exposed Pad ground."
part B pins: 2 GUARD "Guard pins increase clearance and creepage between other pins. Pins 3 and 6 can be used to build guard rings around the inputs", 3 GUARD "Guard pins increase clearance and creepage between other pins. Pins 3 and 6 can be used to build guard rings around the inputs", 6 GUARD "Guard pins increase clearance and creepage between other pins. Pins 3 and 6 can be used to build guard rings around the inputs", 7 GUARD "Guard pins increase clearance and creepage between other pins. Pins 3 and 6 can be used to build guard rings around the inputs", 10 GUARD "Guard pins increase clearance and creepage between other pins. Pins 3 and 6 can be used to build guard rings around the inputs", 11 GUARD "Guard pins increase clearance and creepage between other pins. Pins 3 and 6 can be used to build guard rings around the inputs", 13 GUARD "Guard pins increase clearance and creepage between other pins. Pins 3 and 6 can be used to build guard rings around the inputs", 15 GUARD "Guard pins increase clearance and creepage between other pins. Pins 3 and 6 can be used to build guard rings around the inputs"

## LTC6090HFE#PBF
designator U?
Single Channel, Picoamp Input Current, CMOS Operational Amplifier, RRO, 10 MHz Typical GBW, 19 V/us Typical SR, 9.5 to 140 V, 16-Pin SOP (FE-16), High Temperature / Automotive, Pb-Free; Linear Technology Part Number: LTC6090; Manufacturer: Linear Technology; PartNumber: LTC6090HFE#PBF; PackageVersion: Rev I; PackageReference: LT-FE-16-EPV-BA; PackageDescription: 16-Lead Plastic TSSOP, Body 5.00 x 4.40 mm, Pitch 0.65 mm; Supplier 1: Digi-Key; Supplier Part Number 1: LTC6090HFE#PBF-ND; Supplier 2: Farnell; Supplier Part Number 2: 2355214; Supplier 3: Newark; Supplier Part Number 3: 48W6433; RoHS: Pb-Free; Mounting Technology: Surface Mount; ComponentLink1Description: Manufacturer URL; ComponentLink1URL: http://www.linear.com/; ComponentLink2Description: Datasheet; ComponentLink2URL: http://cds.linear.com/docs/en/datasheet/6090f.pdf; ComponentLink3Description: Package Specification; ComponentLink3URL: http://cds.linear.com/docs/en/packaging/05081663_I_FE16%28BA%29.pdf
footprint LT-FE-16-EPV-BA_N (SOP, 16-Leads, Body 5x4.4mm, Pitch 0.65mm, Thermal Pad 2.74x2.74mm, IPC Medium Density)
footprint LT-FE-16-EPV-BA_L (SOP, 16-Leads, Body 5x4.4mm, Pitch 0.65mm, Thermal Pad 2.74x2.74mm, IPC High Density)
footprint LT-FE-16-EPV-BA_M (SOP, 16-Leads, Body 5x4.4mm, Pitch 0.65mm, Thermal Pad 2.74x2.74mm, IPC Low Density)
part A pins: 1 COM "COM Pin is used to interface O\D\ and T\F\L\A\G\ pins to voltage control circuits. Tie this pin to the low voltage ground, or let it float.", 4 -IN (in) "Inverting Input Pin. Input common mode range is V- + 3V to V+ - 3V. Do not exceed absolute maximum voltage range.", 5 +IN (in) "Noninverting Input Pin. Input common mode range is V- + 3V to V+ - 3V. Do not exceed absolute maximum voltage range.", 8 V- (power) "Negative Supply Pin. Connect to V- Only. To achieve low thermal resistance connect this pin to the V- power plane. The V- power plane connection removes heat from the device and should be electrically isolated from all other (See Datasheet)", 9 ~{TFLAG} (oc) "Temperature Flag Pin. The T\F\L\A\G\ pin is an open drain output that sinks current when the die temperature exceeds 145 degreesC.", 12 OUT (out) "Output Pin. If this rail-to-rail output goes below V- , the ESD protection diode will forward bias. If OUT goes above V+, then output device diodes will forward bias. Avoid forward biasing the diodes on the OUT pin. (See Datasheet)", 14 V+ (power) "Positive Supply Pin.", 16 ~{OD} (in) "Output Disable Pin. Active low input disables the output stage. If left open, an internal pull-up resistor enables the amplifier. Input voltage levels are referred to the COM pin.", 17 EP (power) "Exposed Pad ground."
part B pins: 2 GUARD "Guard pins increase clearance and creepage between other pins. Pins 3 and 6 can be used to build guard rings around the inputs", 3 GUARD "Guard pins increase clearance and creepage between other pins. Pins 3 and 6 can be used to build guard rings around the inputs", 6 GUARD "Guard pins increase clearance and creepage between other pins. Pins 3 and 6 can be used to build guard rings around the inputs", 7 GUARD "Guard pins increase clearance and creepage between other pins. Pins 3 and 6 can be used to build guard rings around the inputs", 10 GUARD "Guard pins increase clearance and creepage between other pins. Pins 3 and 6 can be used to build guard rings around the inputs", 11 GUARD "Guard pins increase clearance and creepage between other pins. Pins 3 and 6 can be used to build guard rings around the inputs", 13 GUARD "Guard pins increase clearance and creepage between other pins. Pins 3 and 6 can be used to build guard rings around the inputs", 15 GUARD "Guard pins increase clearance and creepage between other pins. Pins 3 and 6 can be used to build guard rings around the inputs"

## LTC6090HFE#TRPBF
designator U?
Single Channel, Picoamp Input Current, CMOS Operational Amplifier, RRO, 10 MHz Typical GBW, 19 V/us Typical SR, 9.5 to 140 V, 16-Pin SOP (FE-16), High Temperature / Automotive, Pb-Free, Reel; Linear Technology Part Number: LTC6090; Manufacturer: Linear Technology; PartNumber: LTC6090HFE#TRPBF; PackageVersion: Rev I; PackageReference: LT-FE-16-EPV-BA; PackageDescription: 16-Lead Plastic TSSOP, Body 5.00 x 4.40 mm, Pitch 0.65 mm; Supplier 1: Digi-Key; Supplier Part Number 1: LTC6090HFE#TRPBF-ND; Supplier 2: Newark; Supplier Part Number 2: 48W6434; Packing: Reel; RoHS: Pb-Free; Mounting Technology: Surface Mount; ComponentLink1Description: Manufacturer URL; ComponentLink1URL: http://www.linear.com/; ComponentLink2Description: Datasheet; ComponentLink2URL: http://cds.linear.com/docs/en/datasheet/6090f.pdf; ComponentLink3Description: Package Specification; ComponentLink3URL: http://cds.linear.com/docs/en/packaging/05081663_I_FE16%28BA%29.pdf
footprint LT-FE-16-EPV-BA_N (SOP, 16-Leads, Body 5x4.4mm, Pitch 0.65mm, Thermal Pad 2.74x2.74mm, IPC Medium Density)
footprint LT-FE-16-EPV-BA_L (SOP, 16-Leads, Body 5x4.4mm, Pitch 0.65mm, Thermal Pad 2.74x2.74mm, IPC High Density)
footprint LT-FE-16-EPV-BA_M (SOP, 16-Leads, Body 5x4.4mm, Pitch 0.65mm, Thermal Pad 2.74x2.74mm, IPC Low Density)
part A pins: 1 COM "COM Pin is used to interface O\D\ and T\F\L\A\G\ pins to voltage control circuits. Tie this pin to the low voltage ground, or let it float.", 4 -IN (in) "Inverting Input Pin. Input common mode range is V- + 3V to V+ - 3V. Do not exceed absolute maximum voltage range.", 5 +IN (in) "Noninverting Input Pin. Input common mode range is V- + 3V to V+ - 3V. Do not exceed absolute maximum voltage range.", 8 V- (power) "Negative Supply Pin. Connect to V- Only. To achieve low thermal resistance connect this pin to the V- power plane. The V- power plane connection removes heat from the device and should be electrically isolated from all other (See Datasheet)", 9 ~{TFLAG} (oc) "Temperature Flag Pin. The T\F\L\A\G\ pin is an open drain output that sinks current when the die temperature exceeds 145 degreesC.", 12 OUT (out) "Output Pin. If this rail-to-rail output goes below V- , the ESD protection diode will forward bias. If OUT goes above V+, then output device diodes will forward bias. Avoid forward biasing the diodes on the OUT pin. (See Datasheet)", 14 V+ (power) "Positive Supply Pin.", 16 ~{OD} (in) "Output Disable Pin. Active low input disables the output stage. If left open, an internal pull-up resistor enables the amplifier. Input voltage levels are referred to the COM pin.", 17 EP (power) "Exposed Pad ground."
part B pins: 2 GUARD "Guard pins increase clearance and creepage between other pins. Pins 3 and 6 can be used to build guard rings around the inputs", 3 GUARD "Guard pins increase clearance and creepage between other pins. Pins 3 and 6 can be used to build guard rings around the inputs", 6 GUARD "Guard pins increase clearance and creepage between other pins. Pins 3 and 6 can be used to build guard rings around the inputs", 7 GUARD "Guard pins increase clearance and creepage between other pins. Pins 3 and 6 can be used to build guard rings around the inputs", 10 GUARD "Guard pins increase clearance and creepage between other pins. Pins 3 and 6 can be used to build guard rings around the inputs", 11 GUARD "Guard pins increase clearance and creepage between other pins. Pins 3 and 6 can be used to build guard rings around the inputs", 13 GUARD "Guard pins increase clearance and creepage between other pins. Pins 3 and 6 can be used to build guard rings around the inputs", 15 GUARD "Guard pins increase clearance and creepage between other pins. Pins 3 and 6 can be used to build guard rings around the inputs"

## LTC6090IFE#PBF
designator U?
Single Channel, Picoamp Input Current, CMOS Operational Amplifier, RRO, 10 MHz Typical GBW, 19 V/us Typical SR, 9.5 to 140 V, 16-Pin SOP (FE-16), Industrial, Pb-Free; Linear Technology Part Number: LTC6090; Manufacturer: Linear Technology; PartNumber: LTC6090IFE#PBF; PackageVersion: Rev I; PackageReference: LT-FE-16-EPV-BA; PackageDescription: 16-Lead Plastic TSSOP, Body 5.00 x 4.40 mm, Pitch 0.65 mm; Supplier 1: Digi-Key; Supplier Part Number 1: LTC6090IFE#PBF-ND; Supplier 2: Farnell; Supplier Part Number 2: 2355216; Supplier 3: Newark; Supplier Part Number 3: 48W6437; RoHS: Pb-Free; Mounting Technology: Surface Mount; ComponentLink1Description: Manufacturer URL; ComponentLink1URL: http://www.linear.com/; ComponentLink2Description: Datasheet; ComponentLink2URL: http://cds.linear.com/docs/en/datasheet/6090f.pdf; ComponentLink3Description: Package Specification; ComponentLink3URL: http://cds.linear.com/docs/en/packaging/05081663_I_FE16%28BA%29.pdf
footprint LT-FE-16-EPV-BA_N (SOP, 16-Leads, Body 5x4.4mm, Pitch 0.65mm, Thermal Pad 2.74x2.74mm, IPC Medium Density)
footprint LT-FE-16-EPV-BA_L (SOP, 16-Leads, Body 5x4.4mm, Pitch 0.65mm, Thermal Pad 2.74x2.74mm, IPC High Density)
footprint LT-FE-16-EPV-BA_M (SOP, 16-Leads, Body 5x4.4mm, Pitch 0.65mm, Thermal Pad 2.74x2.74mm, IPC Low Density)
part A pins: 1 COM "COM Pin is used to interface O\D\ and T\F\L\A\G\ pins to voltage control circuits. Tie this pin to the low voltage ground, or let it float.", 4 -IN (in) "Inverting Input Pin. Input common mode range is V- + 3V to V+ - 3V. Do not exceed absolute maximum voltage range.", 5 +IN (in) "Noninverting Input Pin. Input common mode range is V- + 3V to V+ - 3V. Do not exceed absolute maximum voltage range.", 8 V- (power) "Negative Supply Pin. Connect to V- Only. To achieve low thermal resistance connect this pin to the V- power plane. The V- power plane connection removes heat from the device and should be electrically isolated from all other (See Datasheet)", 9 ~{TFLAG} (oc) "Temperature Flag Pin. The T\F\L\A\G\ pin is an open drain output that sinks current when the die temperature exceeds 145 degreesC.", 12 OUT (out) "Output Pin. If this rail-to-rail output goes below V- , the ESD protection diode will forward bias. If OUT goes above V+, then output device diodes will forward bias. Avoid forward biasing the diodes on the OUT pin. (See Datasheet)", 14 V+ (power) "Positive Supply Pin.", 16 ~{OD} (in) "Output Disable Pin. Active low input disables the output stage. If left open, an internal pull-up resistor enables the amplifier. Input voltage levels are referred to the COM pin.", 17 EP (power) "Exposed Pad ground."
part B pins: 2 GUARD "Guard pins increase clearance and creepage between other pins. Pins 3 and 6 can be used to build guard rings around the inputs", 3 GUARD "Guard pins increase clearance and creepage between other pins. Pins 3 and 6 can be used to build guard rings around the inputs", 6 GUARD "Guard pins increase clearance and creepage between other pins. Pins 3 and 6 can be used to build guard rings around the inputs", 7 GUARD "Guard pins increase clearance and creepage between other pins. Pins 3 and 6 can be used to build guard rings around the inputs", 10 GUARD "Guard pins increase clearance and creepage between other pins. Pins 3 and 6 can be used to build guard rings around the inputs", 11 GUARD "Guard pins increase clearance and creepage between other pins. Pins 3 and 6 can be used to build guard rings around the inputs", 13 GUARD "Guard pins increase clearance and creepage between other pins. Pins 3 and 6 can be used to build guard rings around the inputs", 15 GUARD "Guard pins increase clearance and creepage between other pins. Pins 3 and 6 can be used to build guard rings around the inputs"